# Altium footprint library clock_led.PcbLib: 50 footprints (part 2 of 4)
Each footprint in its own frame and in the unit in brackets; x right, y up, seen from the top. Pads: shape width x height; smd on the part's side, far side on the other; paste and mask are expansions set on the pad; w line width, h text height; cw(c..) or ccw(c..) is an arc to the next point about the centre after c.
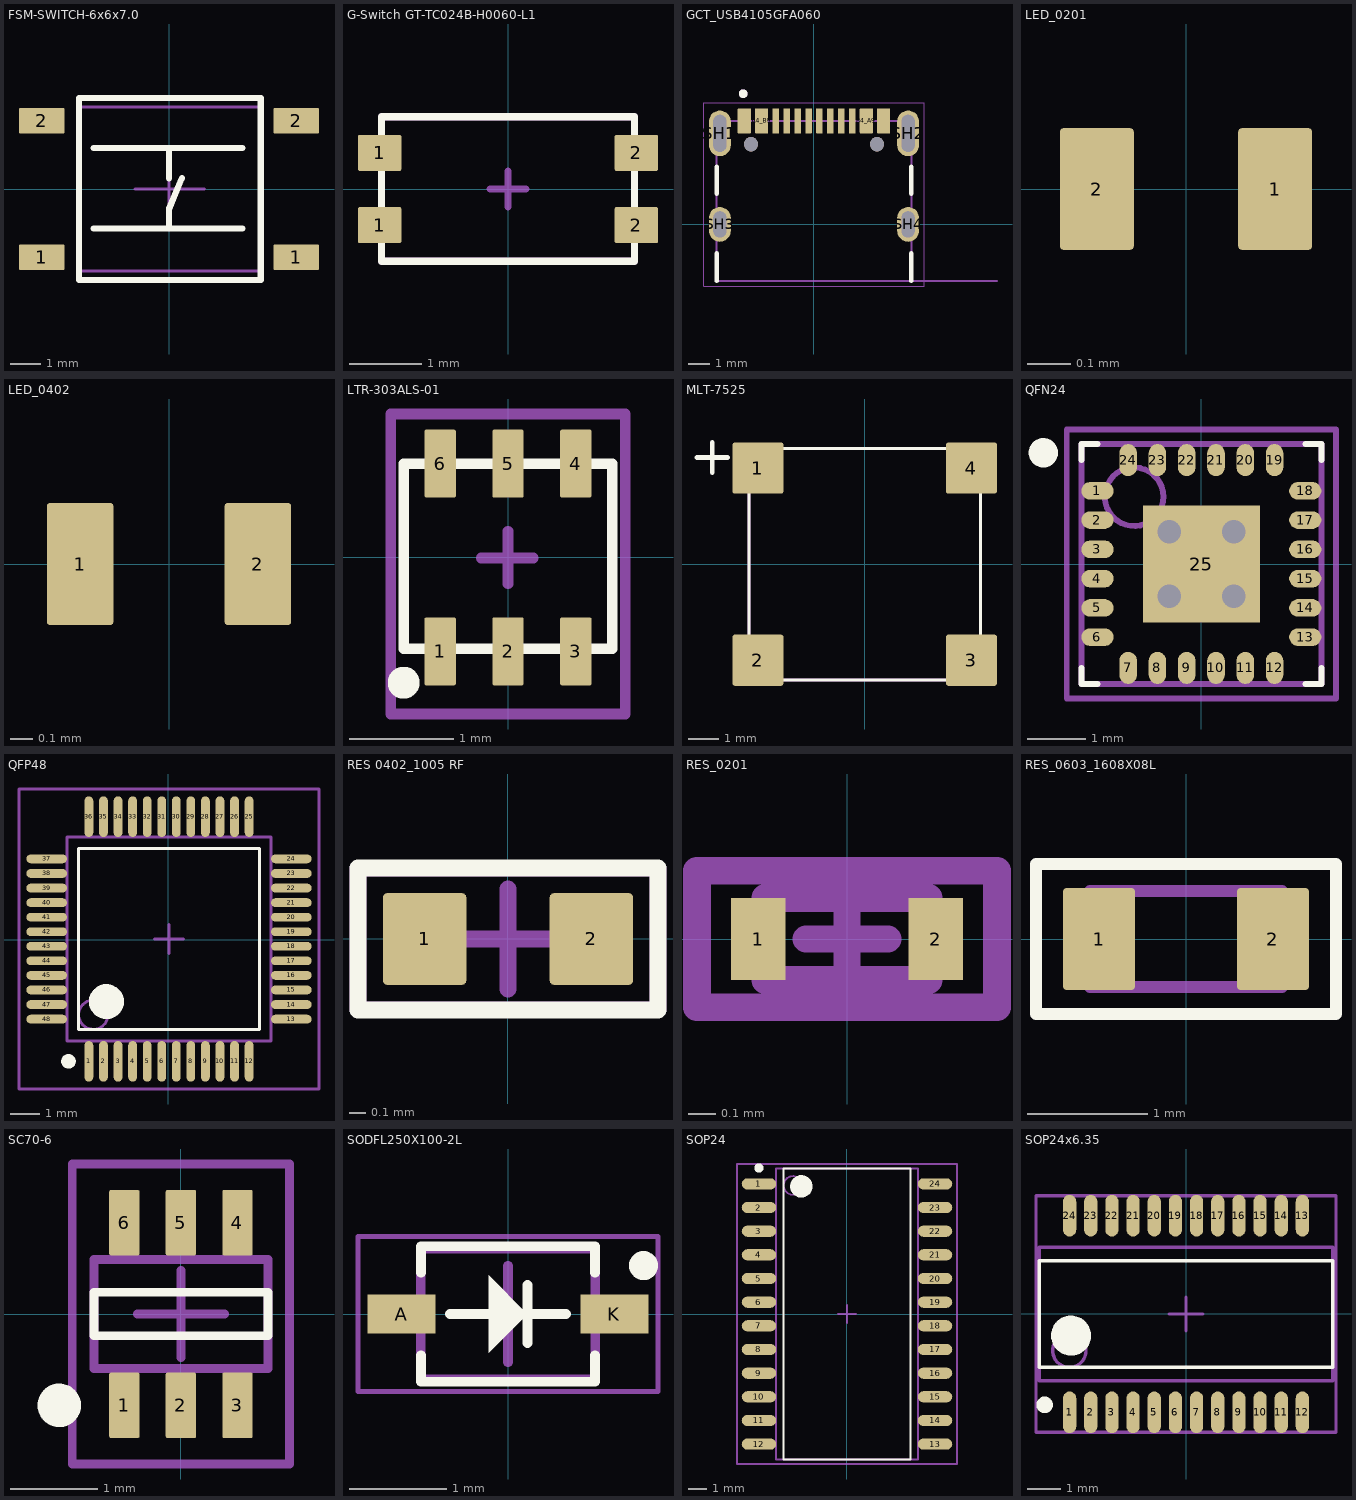
[diagram p1: the footprints below, top view; thin cyan lines are the x and y axes]

## FSM-SWITCH-6x6x7.0 [mm]
pads (4):
  rrect10% 1.5x0.85 smd: 1(-4.2,-2.25) 1(4.2,-2.25) 2(-4.2,2.25) 2(4.2,2.25)
Top Overlay:
  lines w0.2: -2.972,3 -2.972,-3 3.028,-3 3.028,3
  lines w0.203: -2.972,3 3.028,3 ; -2.487,-1.3 2.416,-1.3 ; -2.487,1.35 2.416,1.35 ; 0,-1.3 0,-0.66 0.425,0.353 ; 0,0.353 0,1.35
Top Assembly:
  lines w0.1: -2.972,-2.7 -2.972,2.7 3.028,2.7 3.028,-2.7 -2.972,-2.7
  lines w0.102: -1.115,0 0.028,0 ; 0,-1.115 0,0 ; 0,1.013 0,0 ; 1.171,0 0,0
3D body "SW-SMD-6x6x7.0.step": height 7, standoff 0, extent -4.5,-3.05 4.5,3.051

## G-Switch GT-TC024B-H0060-L1 [mm] "Tactile Switch 3x2mm"
pads (4):
  rrect10% 0.6x0.5 smd: 1(-1.775,-0.5) 1(-1.775,0.5) 2(1.775,-0.5) 2(1.775,0.5)
Top Overlay:
  lines w0.102: -1.75,-1 -1.75,1 1.75,1 1.75,-1 -1.75,-1
Top Assembly:
  lines w0.102: -1.75,-1 -1.75,1 1.75,1 1.75,-1 -1.75,-1
Top Courtyard:
  lines w0.102: -0.25,0 0.25,0 ; 0,-0.25 0,0.25 ; -1.75,-1 -1.75,1 1.75,1 1.75,-1 -1.75,-1
3D body "SW-SMD_L3.0-W2.0-LS3.5.step": height 0.64, standoff -0.03, extent -1.75,-1 1.75,1

## GCT_USB4105GFA060 [mm]
height 3.31
pads (18):
  rrect10% 0.6x1.15 smd: A1_B12(-3.2,4.755) A4_B9(-2.4,4.755) B1_A12(3.2,4.755) B4_A9(2.4,4.755)
  rrect10% 0.3x1.15 smd: A5(-1.25,4.755) A6(-0.25,4.755) A7(0.25,4.755) A8(1.25,4.755) B5(1.75,4.755) B6(0.75,4.755) B7(-0.75,4.755) B8(-1.75,4.755)
  oval 1x2.1 hole 0.6 slot 1.7 at 90 deg: SH1(-4.32,4.18) SH2(4.32,4.18)
  oval 1x1.6 hole 0.6 slot 1.2 at 90 deg: SH3(-4.32,0) SH4(4.32,0)
  round 0.65 hole 0.65 unplated: ""(-2.89,3.68) ""(2.89,3.68)
Top Overlay:
  circle w0.2: c-3.25,6 r0.1
  lines w0.2: -4.47,-2.6 -4.47,-1.32 ; -4.47,1.4 -4.47,2.65 ; 4.47,-2.6 4.47,-1.32 ; 4.47,1.4 4.47,2.65
Mechanical 13:
  circle w0.2: c-3.25,6 r0.1
  lines w0.1: 8.4,-2.6 4.47,-2.6 ; 4.47,-2.6 -4.47,-2.6 -4.47,4.75 4.47,4.75 4.47,-2.6
  text "PCB EDGE" at 5.4,-2.5 h0.41
Mechanical 15:
  lines w0.05: -5.07,-2.85 5.07,-2.85 5.07,5.58 -5.07,5.58 -5.07,-2.85
3D body "step_temp.STEP": height 3.31, standoff -0.85, extent -4.47,-2.6 4.47,5.11

## LED_0201 [mm]
height 0.4
pads (2):
  rrect10% 0.17x0.28 smd: 1(0.205,0) 2(-0.205,0)

## LED_0402 [mm]
pads (2):
  rrect10% 0.3x0.55 smd: 1(-0.4,0) 2(0.4,0)
3D body "LED0402.STEP": height 0.45, standoff 0, extent -0.505,-0.25 0.505,0.25

## LTR-303ALS-01 [mm] "Ambient light sensor"
height 1
pads (6):
  rrect10% 0.3x0.65 smd mask+0: 1(-0.65,-0.9) 2(0,-0.9) 3(0.65,-0.9) 4(0.65,0.9) 5(0,0.9) 6(-0.65,0.9)
Top Overlay:
  circle w0.254: c-1,-1.2 r0.025
  lines w0.102: -1,-0.875 -1,0.9 1,0.9 1,-0.875 -1,-0.875
Top Assembly:
  lines w0.102: -1.125,-1.5 1.125,-1.5 1.125,1.375 -1.125,1.375 -1.125,-1.5
Top Courtyard:
  lines w0.102: -0.257,-0.005 0.243,-0.005 ; 0,-0.25 0,0.25 ; -1.125,-1.5 1.125,-1.5 1.125,1.375 -1.125,1.375 -1.125,-1.5
3D body "U1~TDFN-6_L2.0-W2.0-P0.65-BL~TDFN-6_L2.0-W2.0-H0.8-P0.65-BL~aoMD - TDFN-6_L2.0-W2.0-P0.65-BL~TDFN-6_L2.0-W2.0-H0.8-P0.65-BL~aoMD.step": height 0.77, standoff 0, extent -1.01,-1.01 1.01,1.01

## MLT-7525 [mm] "Buzzer"
pads (4):
  rrect10% 1.68x1.68 smd paste-2539.97 mask+0: 1(-3.5,3.15) 2(-3.5,-3.15) 3(3.5,-3.15) 4(3.5,3.15)
Top Overlay:
  lines w0.102: -3.8,-3.8 -3.8,3.8 3.8,3.8 3.8,-3.8 -3.8,-3.8
  lines w0.152: -5.5,3.5 -4.5,3.5 ; -5,3 -5,4
Top Assembly:
  lines w0.102: -3.8,-3.8 3.8,-3.8 3.8,3.8 -3.8,3.8 -3.8,-3.8
Top Courtyard:
  lines w0.102: -3.8,-3.8 -3.8,3.8 3.8,3.8 3.8,-3.8 -3.8,-3.8
3D body "BUZZER_MLT-7525.step": height 2.52, standoff 0, extent -3.75,-3.76 3.75,3.75

## QFN24 [mm] "PQFN, 24-Leads, Body 4.00x4.00mm, Pitch 0.50mm, Thermal Pad 2.00x2.00mm, IPC Medium Density"
height 1
pads (25):
  oval 0.55x0.3 smd: 1(-1.775,1.25) 2(-1.775,0.75) 3(-1.775,0.25) 4(-1.775,-0.25) 5(-1.775,-0.75) 6(-1.775,-1.25) 13(1.775,-1.25) 14(1.775,-0.75) 15(1.775,-0.25) 16(1.775,0.25) 17(1.775,0.75) 18(1.775,1.25)
  oval 0.3x0.55 smd: 7(-1.25,-1.775) 8(-0.75,-1.775) 9(-0.25,-1.775) 10(0.25,-1.775) 11(0.75,-1.775) 12(1.25,-1.775) 19(1.25,1.775) 20(0.75,1.775) 21(0.25,1.775) 22(-0.25,1.775) 23(-0.75,1.775) 24(-1.25,1.775)
  rect 2x2 smd: 25(0,0)
via 0.55,-0.55 diameter 0.7 hole 0.4
via -0.55,-0.55 diameter 0.7 hole 0.4
via 0.55,0.55 diameter 0.7 hole 0.4
via -0.55,0.55 diameter 0.7 hole 0.4
Top Overlay:
  circle w0.25: c-2.7,1.9 r0.125
  lines w0.102: -2.05,-1.776 -2.05,-2.05 -1.776,-2.05 ; -2.05,1.776 -2.05,2.05 -1.776,2.05 ; 1.776,-2.05 2.05,-2.05 2.05,-1.776 ; 1.776,2.05 2.05,2.05 2.05,1.776
Top Assembly:
  circle w0.1: c-1.149,1.149 r0.5
  lines w0.102: -2.05,-2.05 2.05,-2.05 2.05,2.05 -2.05,2.05 -2.05,-2.05
Top Courtyard:
  lines w0.1: -0.5,0 0.5,0 ; 0,-0.5 0,0.5
  lines w0.102: -2.3,-2.3 2.3,-2.3 2.3,2.3 -2.3,2.3 -2.3,-2.3
3D body "QFN24.step": height 1, standoff 0, extent -2.05,-2.05 2.05,2.05

## QFP48 [mm] "TSQFP, 48-Leads, Body 7.00x7.00mm, Pitch 0.50mm, IPC Medium Density"
height 1.5
pads (48):
  oval 0.3x1.4 smd: 1(-2.725,-4.175) 2(-2.225,-4.175) 3(-1.725,-4.175) 4(-1.225,-4.175) 5(-0.725,-4.175) 6(-0.225,-4.175) 7(0.275,-4.175) 8(0.775,-4.175) 9(1.275,-4.175) 10(1.775,-4.175) 11(2.275,-4.175) 12(2.775,-4.175) 25(2.775,4.225) 26(2.275,4.225) 27(1.775,4.225) 28(1.275,4.225) 29(0.775,4.225) 30(0.275,4.225) 31(-0.225,4.225) 32(-0.725,4.225) 33(-1.225,4.225) 34(-1.725,4.225) 35(-2.225,4.225) 36(-2.725,4.225)
  oval 1.4x0.3 smd: 13(4.225,-2.725) 14(4.225,-2.225) 15(4.225,-1.725) 16(4.225,-1.225) 17(4.225,-0.725) 18(4.225,-0.225) 19(4.225,0.275) 20(4.225,0.775) 21(4.225,1.275) 22(4.225,1.775) 23(4.225,2.275) 24(4.225,2.775) 37(-4.175,2.775) 38(-4.175,2.275) 39(-4.175,1.775) 40(-4.175,1.275) 41(-4.175,0.775) 42(-4.175,0.275) 43(-4.175,-0.225) 44(-4.175,-0.725) 45(-4.175,-1.225) 46(-4.175,-1.725) 47(-4.175,-2.225) 48(-4.175,-2.725)
Top Overlay:
  circle w0.6: c-2.124,-2.124 r0.3
  circle w0.25: c-3.425,-4.175 r0.125
  lines w0.102: -3.075,-3.075 -3.075,3.125 3.125,3.125 3.125,-3.075 -3.075,-3.075
Top Assembly:
  circle w0.1: c-2.574,-2.574 r0.5
  lines w0.102: -3.475,-3.475 -3.475,3.525 3.525,3.525 3.525,-3.475 -3.475,-3.475
Top Courtyard:
  lines w0.1: -0.475,0.025 0.525,0.025 ; 0.025,-0.475 0.025,0.525
  lines w0.102: -5.125,-5.125 -5.125,5.175 5.175,5.175 5.175,-5.125 -5.125,-5.125
3D body "QFP48.step": height 1.5, standoff 0, extent -4.475,-4.475 4.525,4.525

## RES 0402_1005 RF [mm] "Chip Resistor, 2-Leads, Body 1.0x0.5mm, IPC High Density"
height 0.4
pads (2):
  rrect10% 0.5x0.55 smd: 1(-0.5,0) 2(0.5,0)
Top Overlay:
  lines w0.102: -0.9,-0.425 0.9,-0.425 0.9,0.425 -0.9,0.425 -0.9,-0.425
Top Courtyard:
  lines w0.1: -0.3,0 0.3,0 ; 0,-0.3 0,0.3 ; -0.9,-0.425 -0.9,0.425 0.9,0.425 0.9,-0.425 -0.9,-0.425
3D body "0402 resistor.STEP": height 0.35, standoff 0, extent -0.5,-0.25 0.5,0.25

## RES_0201 [mm]
height 0.1
pads (2):
  rect 0.2x0.3 smd: 1(-0.325,0) 2(0.325,0)
Top Assembly:
  lines w0.102: -0.3,-0.15 0.3,-0.15 0.3,0.15 -0.3,0.15 -0.3,-0.15
Top Courtyard:
  lines w0.1: -0.15,0 0.15,0 ; 0,-0.15 0,0.15
  lines w0.102: -0.55,-0.25 0.55,-0.25 0.55,0.25 -0.55,0.25 -0.55,-0.25
3D body "Resistor_0201.step": height 0.1, standoff 0, extent -0.3,-0.15 0.3,0.15

## RES_0603_1608X08L [mm] "Chip Resistor 0603"
height 0.8
pads (2):
  rrect10% 0.6x0.85 smd: 1(-0.725,0) 2(0.725,0)
Top Overlay:
  lines w0.102: -1.25,-0.625 -1.25,0.625 1.25,0.625 1.25,-0.625 -1.25,-0.625
Top Assembly:
  lines w0.1: -0.8,-0.4 0.8,-0.4 0.8,0.4 -0.8,0.4 -0.8,-0.4

## SC70-6 [mm] "Teensy little SOT23 type thing"
height 1.1
pads (6):
  rrect10% 0.35x0.75 smd: 1(-0.65,-1.05) 2(0,-1.05) 3(0.65,-1.05) 4(0.65,1.05) 5(0,1.05) 6(-0.65,1.05)
Top Overlay:
  circle w0.25: c-1.4,-1.05 r0.125
  lines w0.102: -1,-0.25 1,-0.25 1,0.25 -1,0.25 -1,-0.25
Top Assembly:
  lines w0.102: -1,-0.625 -1,0.625 1,0.625 1,-0.625 -1,-0.625
Top Courtyard:
  lines w0.1: -0.5,0 0.5,0 ; 0,-0.5 0,0.5
  lines w0.102: -1.25,-1.725 -1.25,1.725 1.25,1.725 1.25,-1.725 -1.25,-1.725
3D body "SC70-6.step": height 1.1, standoff 0, extent -1,-1.05 1,1.05

## SODFL250X100-2L [mm] "SODFL, 2-Leads, Body 1.25x2.50mm, IPC High Density"
height 1
pads (2):
  rrect1% 0.7x0.4 smd: A(-1.1,0) K(1.1,0)
Top Overlay:
  circle w0.2: c1.4,0.5 r0.05
  region: 0.2,0 -0.2,0.4 -0.2,-0.4
  lines w0.102: -0.9,-0.426 -0.9,-0.7 0.9,-0.7 0.9,-0.426 ; -0.9,0.426 -0.9,0.7 0.9,0.7 0.9,0.426 ; -0.6,0 0.6,0 ; 0.2,-0.3 0.2,0.3
Mechanical 13:
  lines w0.1: -0.9,-0.675 0.9,-0.675 0.9,0.675 -0.9,0.675 -0.9,-0.675
Mechanical 15:
  lines w0.05: -1.55,-0.8 1.55,-0.8 1.55,0.8 -1.55,0.8 -1.55,-0.8
  lines w0.1: -0.5,0 0.5,0 ; 0,-0.5 0,0.5
3D body "SODFL250X100-2L.step": height 1, standoff 0, extent -1.25,-0.675 1.25,0.675

## SOP24 [mm] "SOP, 24-Leads, Body 15.37x7.50mm, Pitch 1.27mm, IPC Medium Density"
height 2.65
pads (24):
  oval 1.85x0.6 smd: 1(-4.725,6.985) 2(-4.725,5.715) 3(-4.725,4.445) 4(-4.725,3.175) 5(-4.725,1.905) 6(-4.725,0.635) 7(-4.725,-0.635) 8(-4.725,-1.905) 9(-4.725,-3.175) 10(-4.725,-4.445) 11(-4.725,-5.715) 12(-4.725,-6.985) 13(4.725,-6.985) 14(4.725,-5.715) 15(4.725,-4.445) 16(4.725,-3.175) 17(4.725,-1.905) 18(4.725,-0.635) 19(4.725,0.635) 20(4.725,1.905) 21(4.725,3.175) 22(4.725,4.445) 23(4.725,5.715) 24(4.725,6.985)
Top Overlay:
  circle w0.25: c-4.725,7.835 r0.125
  circle w0.6: c-2.449,6.849 r0.3
  lines w0.102: -3.4,-7.8 -3.4,7.8 3.4,7.8 3.4,-7.8 -3.4,-7.8
Mechanical 13:
  circle w0.1: c-2.899,6.899 r0.5
  lines w0.102: -3.8,-7.8 -3.8,7.8 3.8,7.8 3.8,-7.8 -3.8,-7.8
Mechanical 15:
  lines w0.1: -0.5,0 0.5,0 ; 0,-0.5 0,0.5
  lines w0.102: -5.9,-8.05 -5.9,8.05 5.9,8.05 5.9,-8.05 -5.9,-8.05
3D body "SOP24.step": height 2.65, standoff 0, extent -5.168,-7.8 5.168,7.8

## SOP24x6.35 [mm]
height 1.75
pads (24):
  oval 0.4x1.25 smd: 1(-3.492,-2.95) 2(-2.857,-2.95) 3(-2.222,-2.95) 4(-1.587,-2.95) 5(-0.953,-2.95) 6(-0.318,-2.95) 7(0.318,-2.95) 8(0.953,-2.95) 9(1.587,-2.95) 10(2.222,-2.95) 11(2.857,-2.95) 12(3.492,-2.95) 13(3.492,2.95) 14(2.857,2.95) 15(2.222,2.95) 16(1.587,2.95) 17(0.953,2.95) 18(0.318,2.95) 19(-0.318,2.95) 20(-0.953,2.95) 21(-1.587,2.95) 22(-2.222,2.95) 23(-2.857,2.95) 24(-3.492,2.95)
Top Overlay:
  circle w0.6: c-3.449,-0.649 r0.3
  circle w0.25: c-4.243,-2.725 r0.125
  lines w0.102: -4.4,-1.6 -4.4,1.6 4.4,1.6 4.4,-1.6 -4.4,-1.6
Top Assembly:
  circle w0.1: c-3.499,-1.099 r0.5
  lines w0.102: -4.4,-2 -4.4,2 4.4,2 4.4,-2 -4.4,-2
Top Courtyard:
  lines w0.1: -0.5,0 0.5,0 ; 0,-0.5 0,0.5
  lines w0.102: -4.5,-3.55 -4.5,3.55 4.5,3.55 4.5,-3.55 -4.5,-3.55
3D body "SOP24x6.35.step": height 1.75, standoff 0, extent -4.4,-3 4.4,3